# Altium integrated library TIM0_Mod.IntLib: 2 symbols
Pins are listed as number, name and electrical type; pins without a type are passive.

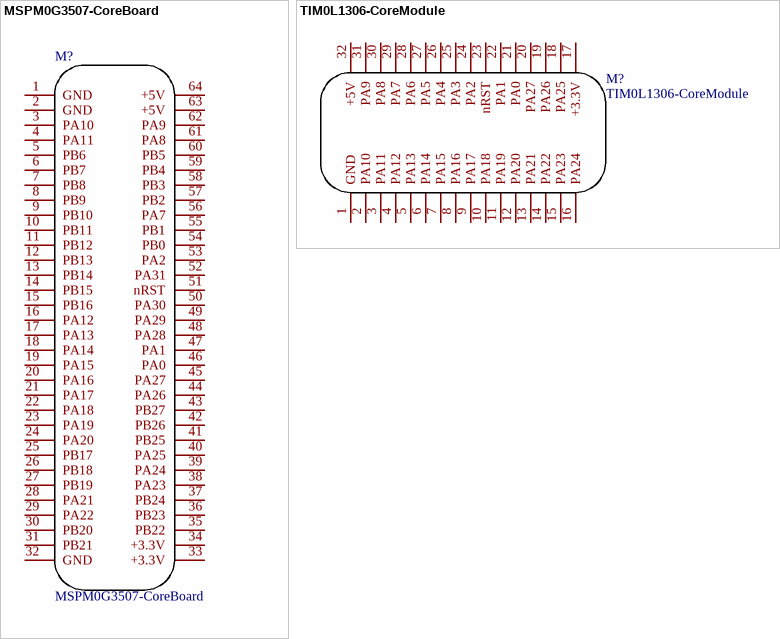
[diagram p0: symbols MSPM0G3507-CoreBoard to TIM0L1306-CoreModule]

## MSPM0G3507-CoreBoard
designator M?
Add into BOM: yes; Symbol: MSPM0G3507-CoreBoard; Convert to PCB: yes; Device: MSPM0G3507-CoreBoard
footprint MSPM0G3507-CoreBoard
pins: 1 GND, 2 GND, 3 PA10, 4 PA11, 5 PB6, 6 PB7, 7 PB8, 8 PB9, 9 PB10, 10 PB11, 11 PB12, 12 PB13, 13 PB14, 14 PB15, 15 PB16, 16 PA12, 17 PA13, 18 PA14, 19 PA15, 20 PA16, 21 PA17, 22 PA18, 23 PA19, 24 PA20, 25 PB17, 26 PB18, 27 PB19, 28 PA21, 29 PA22, 30 PB20, 31 PB21, 32 GND, 33 +3.3V, 34 +3.3V, 35 PB22, 36 PB23, 37 PB24, 38 PA23, 39 PA24, 40 PA25, 41 PB25, 42 PB26, 43 PB27, 44 PA26, 45 PA27, 46 PA0, 47 PA1, 48 PA28, 49 PA29, 50 PA30, 51 nRST, 52 PA31, 53 PA2, 54 PB0, 55 PB1, 56 PA7, 57 PB2, 58 PB3, 59 PB4, 60 PB5, 61 PA8, 62 PA9, 63 +5V, 64 +5V

## TIM0L1306-CoreModule
designator M?
Symbol: TIM0L1306-CoreModule; Device: TIM0L1306-CoreModule
footprint TIM0L1306-CoreModule
pins: 1 GND, 2 PA10, 3 PA11, 4 PA12, 5 PA13, 6 PA14, 7 PA15, 8 PA16, 9 PA17, 10 PA18, 11 PA19, 12 PA20, 13 PA21, 14 PA22, 15 PA23, 16 PA24, 17 +3.3V, 18 PA25, 19 PA26, 20 PA27, 21 PA0, 22 PA1, 23 nRST, 24 PA2, 25 PA3, 26 PA4, 27 PA5, 28 PA6, 29 PA7, 30 PA8, 31 PA9, 32 +5V